# Altium schematic symbol library SDT024TFT-TS_MODULE.Schlib: 1 symbol
Pins are listed as number, name and electrical type; pins without a type are passive.

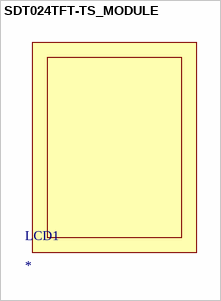
[diagram p0: symbol SDT024TFT-TS_MODULE]

## SDT024TFT-TS_MODULE
designator LCD1